# EAGLE library part STM8L151C (library MCU)
STM8L151C 48-Pin 8-bit ultralow power MCU, up to 32 KB Flash, 1 KB Data EEPROM, RTC, LCD, timers, USART, I2C, SPI, ADC, DAC, comparators
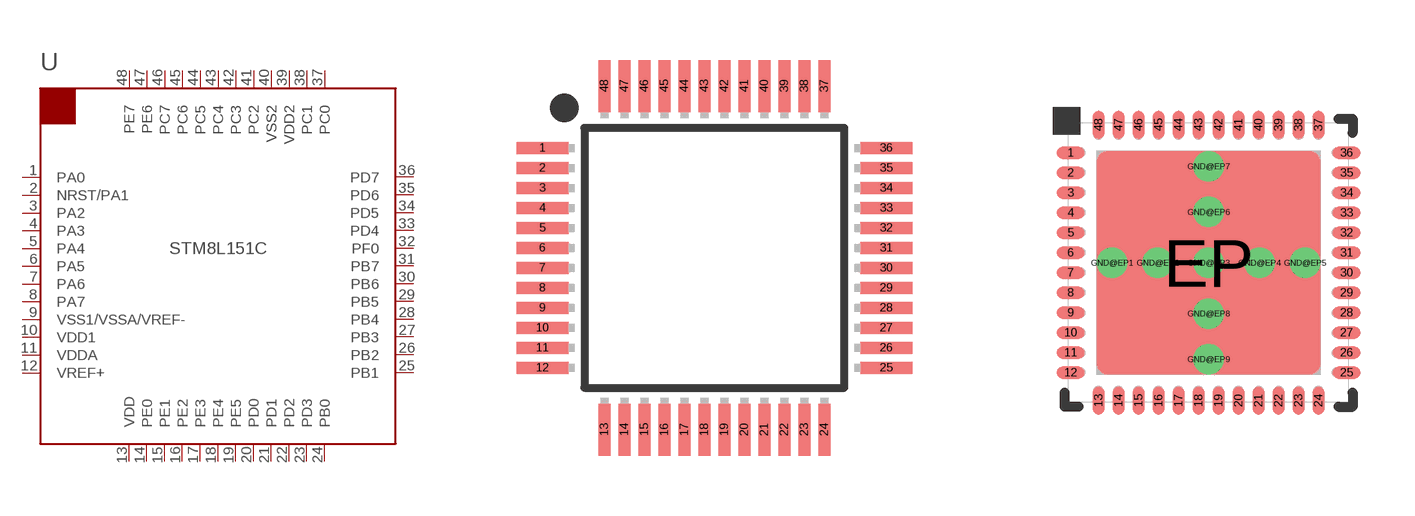
[diagram p6: symbol with the pads of LQFP-48; footprints LQFP-48, UFQFPN48]

Designator prefix U

## STM8L151C4T6 (PARTNO: 01-100487-00; PROG_MEM: 16 Kbytes), STM8L151C6T6 (PROG_MEM: 32 Kbytes), STM8L151C8T6 (PROG_MEM: 64 Kbytes)  [LQFP-48]
1  PA0
2  NRST/PA1
3  PA2
4  PA3
5  PA4
6  PA5
7  PA6
8  PA7
9  VSS1/VSSA/VREF-  pwr
10  VDD1  pwr
11  VDDA  pwr
12  VREF+  pwr
13  VDD  pwr
14  PE0
15  PE1
16  PE2
17  PE3
18  PE4
19  PE5
20  PD0
21  PD1
22  PD2
23  PD3
24  PB0
25  PB1
26  PB2
27  PB3
28  PB4
29  PB5
30  PB6
31  PB7
32  PF0
33  PD4
34  PD5
35  PD6
36  PD7
37  PC0
38  PC1
39  VDD2  pwr
40  VSS2  pwr
41  PC2
42  PC3
43  PC4
44  PC5
45  PC6
46  PC7
47  PE6
48  PE7

## STM8L151C4U3 (PROG_MEM: 16 Kbytes), STM8L151C6U3 (PROG_MEM: 32 Kbytes), STM8L151C8U3 (PROG_MEM: 64 Kbytes)  [UFQFPN48]
1  PA0
2  NRST/PA1
3  PA2
4  PA3
5  PA4
6  PA5
7  PA6
8  PA7
9  VSS1/VSSA/VREF-  pwr
10  VDD1  pwr
11  VDDA  pwr
12  VREF+  pwr
13  VDD  pwr
14  PE0
15  PE1
16  PE2
17  PE3
18  PE4
19  PE5
20  PD0
21  PD1
22  PD2
23  PD3
24  PB0
25  PB1
26  PB2
27  PB3
28  PB4
29  PB5
30  PB6
31  PB7
32  PF0
33  PD4
34  PD5
35  PD6
36  PD7
37  PC0
38  PC1
39  VDD2  pwr
40  VSS2  pwr
41  PC2
42  PC3
43  PC4
44  PC5
45  PC6
46  PC7
47  PE6
48  PE7
EP  VSS1/VSSA/VREF-  pwr
GND@EP1  VSS1/VSSA/VREF-  pwr
GND@EP2  VSS1/VSSA/VREF-  pwr
GND@EP3  VSS1/VSSA/VREF-  pwr
GND@EP4  VSS1/VSSA/VREF-  pwr
GND@EP5  VSS1/VSSA/VREF-  pwr
GND@EP6  VSS1/VSSA/VREF-  pwr
GND@EP7  VSS1/VSSA/VREF-  pwr
GND@EP8  VSS1/VSSA/VREF-  pwr
GND@EP9  VSS1/VSSA/VREF-  pwr

## Footprint LQFP-48 (pad centres in mm)
48-pin low profile quad flat 7x7mm package (LQFP48)
smd 1.3 x 0.3: 1 -4.3,2.75; 2 -4.3,2.25; 3 -4.3,1.75; 4 -4.3,1.25; 5 -4.3,0.75; 6 -4.3,0.25; 7 -4.3,-0.25; 8 -4.3,-0.75; 9 -4.3,-1.25; 10 -4.3,-1.75; 11 -4.3,-2.25; 12 -4.3,-2.75; 25 4.3,-2.75; 26 4.3,-2.25; 27 4.3,-1.75; 28 4.3,-1.25; 29 4.3,-0.75; 30 4.3,-0.25; 31 4.3,0.25; 32 4.3,0.75; 33 4.3,1.25; 34 4.3,1.75; 35 4.3,2.25; 36 4.3,2.75
smd 0.3 x 1.3: 13 -2.75,-4.3; 14 -2.25,-4.3; 15 -1.75,-4.3; 16 -1.25,-4.3; 17 -0.75,-4.3; 18 -0.25,-4.3; 19 0.25,-4.3; 20 0.75,-4.3; 21 1.25,-4.3; 22 1.75,-4.3; 23 2.25,-4.3; 24 2.75,-4.3; 37 2.75,4.3; 38 2.25,4.3; 39 1.75,4.3; 40 1.25,4.3; 41 0.75,4.3; 42 0.25,4.3; 43 -0.25,4.3; 44 -0.75,4.3; 45 -1.25,4.3; 46 -1.75,4.3; 47 -2.25,4.3; 48 -2.75,4.3

## Footprint UFQFPN48 (pad centres in mm)
UFQFPN48 - 48-pin ultra thin fine pitch quad flat no-lead 7 x 7 mm, 0.5 mm pitch Changelog: 12-16-13: Initial Design, CN
smd 0.7 x 0.3: 1 -3.45,2.75; 2 -3.45,2.25; 3 -3.45,1.75; 4 -3.45,1.25; 5 -3.45,0.75; 6 -3.45,0.25; 7 -3.45,-0.25; 8 -3.45,-0.75; 9 -3.45,-1.25; 10 -3.45,-1.75; 11 -3.45,-2.25; 12 -3.45,-2.75; 25 3.45,-2.75; 26 3.45,-2.25; 27 3.45,-1.75; 28 3.45,-1.25; 29 3.45,-0.75; 30 3.45,-0.25; 31 3.45,0.25; 32 3.45,0.75; 33 3.45,1.25; 34 3.45,1.75; 35 3.45,2.25; 36 3.45,2.75
smd 0.3 x 0.7: 13 -2.75,-3.45; 14 -2.25,-3.45; 15 -1.75,-3.45; 16 -1.25,-3.45; 17 -0.75,-3.45; 18 -0.25,-3.45; 19 0.25,-3.45; 20 0.75,-3.45; 21 1.25,-3.45; 22 1.75,-3.45; 23 2.25,-3.45; 24 2.75,-3.45; 37 2.75,3.45; 38 2.25,3.45; 39 1.75,3.45; 40 1.25,3.45; 41 0.75,3.45; 42 0.25,3.45; 43 -0.25,3.45; 44 -0.75,3.45; 45 -1.25,3.45; 46 -1.75,3.45; 47 -2.25,3.45; 48 -2.75,3.45
smd 5.6 x 5.6: EP 0,0
drill 0.254 pad 0.61: GND@EP1 -2.413,0; GND@EP2 -1.27,0; GND@EP3 0,0; GND@EP4 1.27,0; GND@EP5 2.413,0; GND@EP6 0,1.27; GND@EP7 0,2.413; GND@EP8 0,-1.27; GND@EP9 0,-2.413